# Altium footprint library crystal oscillators.PcbLib: 1 footprints
Each footprint in its own frame and in the unit in brackets; x right, y up, seen from the top. Pads: shape width x height; smd on the part's side, far side on the other; paste and mask are expansions set on the pad; w line width, h text height; cw(c..) or ccw(c..) is an arc to the next point about the centre after c.
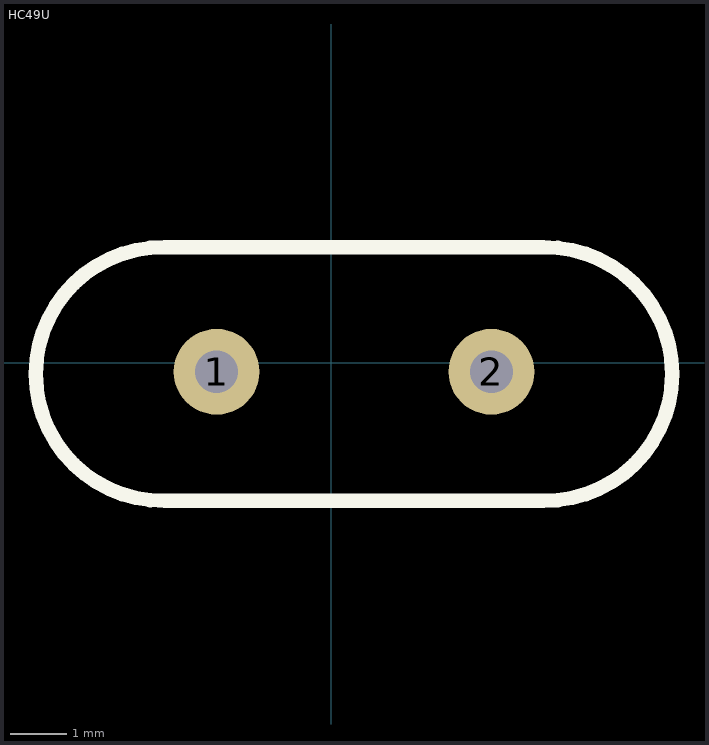
[diagram p0: the footprint, top view; thin cyan lines are the x and y axes]

## HC49U [mil] "Vertical mounting"
height 511.81
pads (2):
  round 60 hole 30: 1(-80.31,-6.3) 2(111.81,-6.3)
Top Overlay:
  lines w10: -116.6,-96.42 cw(c-118.11,-7.87) -116.54,80.67 148.09,80.67 cw(c149.61,-7.87) 148.04,-96.42 -116.6,-96.42